# EAGLE library part ATMEGA328P-PN (library ATMEGA328P-PN)
8-bit Microcontrollers - MCU AVR 32K FLSH 2K SRAM 1KB EE-20 MHZ 105C Source: Datasheet <http://uk.rs-online.com/web/p/products/1310275P>
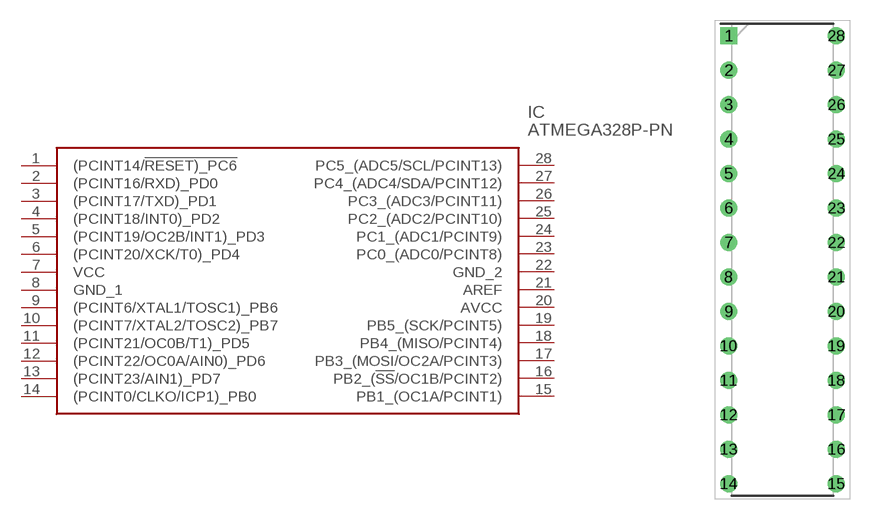
[diagram p0: symbol with the pads of DIP794W53P254L3467H457Q28N; footprint DIP794W53P254L3467H457Q28N]

Designator prefix IC

## ATMEGA328P-PN (Description: 8-bit Microcontrollers - MCU AVR 32K FLSH 2K SRAM 1KB EE-20 MHZ 105C; Height: 4.572mm; Manufacturer_Name: Microchip; Manufacturer_Part_Number: ATMEGA328P-PN; RS_Part_Number: 1310275P; RS_Price-Stock: http://uk.rs-online.com/web/p/products/1310275P)  [DIP794W53P254L3467H457Q28N]
1  (PCINT14/!RESET)_PC6
2  (PCINT16/RXD)_PD0
3  (PCINT17/TXD)_PD1
4  (PCINT18/INT0)_PD2
5  (PCINT19/OC2B/INT1)_PD3
6  (PCINT20/XCK/T0)_PD4
7  VCC
8  GND_1
9  (PCINT6/XTAL1/TOSC1)_PB6
10  (PCINT7/XTAL2/TOSC2)_PB7
11  (PCINT21/OC0B/T1)_PD5
12  (PCINT22/OC0A/AIN0)_PD6
13  (PCINT23/AIN1)_PD7
14  (PCINT0/CLKO/ICP1)_PB0
15  PB1_(OC1A/PCINT1)
16  PB2_(!SS!/OC1B/PCINT2)
17  PB3_(MOSI/OC2A/PCINT3)
18  PB4_(MISO/PCINT4)
19  PB5_(SCK/PCINT5)
20  AVCC
21  AREF
22  GND_2
23  PC0_(ADC0/PCINT8)
24  PC1_(ADC1/PCINT9)
25  PC2_(ADC2/PCINT10)
26  PC3_(ADC3/PCINT11)
27  PC4_(ADC4/SDA/PCINT12)
28  PC5_(ADC5/SCL/PCINT13)

## Footprint DIP794W53P254L3467H457Q28N (pad centres in mm)
28P3-ren1
drill 0.733 pad 1.133 square: 1 -3.969,16.51
drill 0.733 pad 1.133: 2 -3.969,13.97; 3 -3.969,11.43; 4 -3.969,8.89; 5 -3.969,6.35; 6 -3.969,3.81; 7 -3.969,1.27; 8 -3.969,-1.27; 9 -3.969,-3.81; 10 -3.969,-6.35; 11 -3.969,-8.89; 12 -3.969,-11.43; 13 -3.969,-13.97; 14 -3.969,-16.51; 15 3.969,-16.51; 16 3.969,-13.97; 17 3.969,-11.43; 18 3.969,-8.89; 19 3.969,-6.35; 20 3.969,-3.81; 21 3.969,-1.27; 22 3.969,1.27; 23 3.969,3.81; 24 3.969,6.35; 25 3.969,8.89; 26 3.969,11.43; 27 3.969,13.97; 28 3.969,16.51